# Altium footprint library 2021-03-26_19-59-11.PcbLib: 3 footprints
Each footprint in its own frame and in the unit in brackets; x right, y up, seen from the top. Pads: shape width x height; smd on the part's side, far side on the other; paste and mask are expansions set on the pad; w line width, h text height; cw(c..) or ccw(c..) is an arc to the next point about the centre after c.
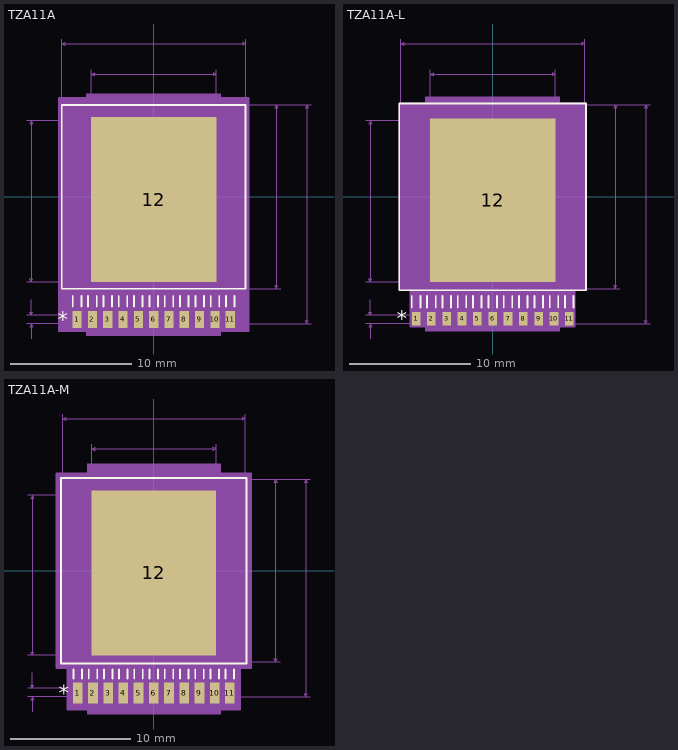
[diagram p0: the footprints below, top view; thin cyan lines are the x and y axes]

## TZA11A [mil]
pads (12):
  rect 30x56 smd: 1(-250,-400) 2(-200,-400) 3(-150,-400) 4(-100,-400) 5(-50,-400) 6(0,-400) 7(50,-400) 8(100,-400) 9(150,-400) 10(200,-400) 11(250,-400)
  rect 409x538 smd: 12(0,-9)
Top Overlay:
  lines w6: -264,-358 -264,-324 ; -236,-358 -236,-324 ; -214,-358 -214,-324 ; -186,-358 -186,-324 ; -164,-358 -164,-324 ; -136,-358 -136,-324 ; -114,-358 -114,-324 ; -86,-358 -86,-324 ; -64,-358 -64,-324 ; -36,-358 -36,-324 ; -14,-358 -14,-324 ; 14,-358 14,-324 ; 36,-358 36,-324 ; 64,-358 64,-324 ; 86,-358 86,-324 ; 114,-358 114,-324 ; 136,-358 136,-324 ; 164,-358 164,-324 ; 186,-358 186,-324 ; 214,-358 214,-324 ; 236,-358 236,-324 ; 264,-358 264,-324 ; -300,-300 300,-300 300,300 -300,300 -300,-300
  text "*" at -312.5,-425 h50
Mechanical 5:
  region: -219.5,337 219.5,337 219.5,-453 -219.5,-453
Mechanical 7:
  lines w1: -415,-414 0,-414 515,-414 ; -415,-386 0,-386 ; -415,-278 0,-278 ; -415,248 0,248 ; -400,-464 -400,-414 ; -400,-336 -400,-386 ; -300,0 -300,515 ; -204.5,0 -204.5,415 ; 0,-300 415,-300 ; 204.5,0 204.5,415 ; 300,0 300,515 ; 415,300 0,300 515,300 ; -400,-414 -405,-424 -395,-424 -400,-414 ; -400,-386 -405,-376 -395,-376 -400,-386 ; -400,-278 -400,248 ; -400,-278 -405,-268 -395,-268 -400,-278 ; -400,248 -405,238 -395,238 -400,248 ; -300,500 300,500 ; -300,500 -290,505 -290,495 -300,500 ; -204.5,400 204.5,400 ; -204.5,400 -194.5,405 -194.5,395 -204.5,400 ; 204.5,400 194.5,405 194.5,395 204.5,400 ; 300,500 290,505 290,495 300,500 ; 400,-300 400,300 ; 400,-300 395,-290 405,-290 400,-300 ; 400,300 395,290 405,290 400,300 ; 500,-414 500,300 ; 500,-414 495,-404 505,-404 500,-414 ; 500,300 495,290 505,290 500,300
  text "Default Padstyle: RX30Y56D0T" at -350,-564 h50
  text "Large Padstyle: RX409Y538D0T" at -350,-639 h50
  text "Alt 1 Padstyle: OX60Y90D30P" at -337.5,-714 h50
  text "Alt 2 Padstyle: OX90Y60D30P" at -337.5,-789 h50
  text ".6in/15.24mm" at 420,-12.5 h25
  text ".526in/13.36mm" at -595,-27.5 h25
  text ".6in/15.24mm" at -75,520 h25
  text ".409in/10.389mm" at -93.75,420 h25
  text ".714in/18.136mm" at 520,-112.5 h25
  text ".028in/.711mm" at -582.5,-412.5 h25
Mechanical 13:
  lines w1: -300,-300 300,-300 300,300 -300,300 -300,-300 ; -264,-414 -264,-300 -236,-300 -236,-414 -264,-414 ; -214,-414 -214,-300 -186,-300 -186,-414 -214,-414 ; -164,-414 -164,-300 -136,-300 -136,-414 -164,-414 ; -114,-414 -114,-300 -86,-300 -86,-414 -114,-414 ; -64,-414 -64,-300 -36,-300 -36,-414 -64,-414 ; -14,-414 -14,-300 14,-300 14,-414 -14,-414 ; 36,-414 36,-300 64,-300 64,-414 36,-414 ; 86,-414 86,-300 114,-300 114,-414 86,-414 ; 136,-414 136,-300 164,-300 164,-414 136,-414 ; 186,-414 186,-300 214,-300 214,-414 186,-414 ; 236,-414 236,-300 264,-300 264,-414 236,-414
  text "*" at -312.5,-425 h50
Mechanical 15:
  region: 310,-438 -310,-438 -310,322 310,322
  lines w6: -310,-438 -310,322 310,322 310,-438 -310,-438
3D body: height 10, standoff 0, extent 0,0 10,10

## TZA11A-L [mil]
pads (12):
  rect 28x44 smd: 1(-250,-398) 2(-200,-398) 3(-150,-398) 4(-100,-398) 5(-50,-398) 6(0,-398) 7(50,-398) 8(100,-398) 9(150,-398) 10(200,-398) 11(250,-398)
  rect 409x534 smd: 12(0,-11)
Top Overlay:
  lines w6: -264,-362 -264,-324 ; -236,-362 -236,-324 ; -214,-362 -214,-324 ; -186,-362 -186,-324 ; -164,-362 -164,-324 ; -136,-362 -136,-324 ; -114,-362 -114,-324 ; -86,-362 -86,-324 ; -64,-362 -64,-324 ; -36,-362 -36,-324 ; -14,-362 -14,-324 ; 14,-362 14,-324 ; 36,-362 36,-324 ; 64,-362 64,-324 ; 86,-362 86,-324 ; 114,-362 114,-324 ; 136,-362 136,-324 ; 164,-362 164,-324 ; 186,-362 186,-324 ; 214,-362 214,-324 ; 236,-362 236,-324 ; 264,-362 264,-324 ; -305,-305 305,-305 305,305 -305,305 -305,-305
  text "*" at -312.5,-423 h50
Mechanical 5:
  region: -219.5,327 219.5,327 219.5,-439 -219.5,-439
Mechanical 7:
  lines w1: -415,-414 0,-414 515,-414 ; -415,-386 0,-386 ; -415,-278 0,-278 ; -415,248 0,248 ; -400,-464 -400,-414 ; -400,-336 -400,-386 ; -300,0 -300,515 ; -204.5,0 -204.5,415 ; 0,-300 415,-300 ; 204.5,0 204.5,415 ; 300,0 300,515 ; 415,300 0,300 515,300 ; -400,-414 -405,-424 -395,-424 -400,-414 ; -400,-386 -405,-376 -395,-376 -400,-386 ; -400,-278 -400,248 ; -400,-278 -405,-268 -395,-268 -400,-278 ; -400,248 -405,238 -395,238 -400,248 ; -300,500 300,500 ; -300,500 -290,505 -290,495 -300,500 ; -204.5,400 204.5,400 ; -204.5,400 -194.5,405 -194.5,395 -204.5,400 ; 204.5,400 194.5,405 194.5,395 204.5,400 ; 300,500 290,505 290,495 300,500 ; 400,-300 400,300 ; 400,-300 395,-290 405,-290 400,-300 ; 400,300 395,290 405,290 400,300 ; 500,-414 500,300 ; 500,-414 495,-404 505,-404 500,-414 ; 500,300 495,290 505,290 500,300
  text "Default Padstyle: RX28Y44D0T" at -350,-564 h50
  text "Large Padstyle: RX409Y534D0T" at -350,-639 h50
  text "Alt 1 Padstyle: OX60Y90D30P" at -337.5,-714 h50
  text "Alt 2 Padstyle: OX90Y60D30P" at -337.5,-789 h50
  text "0.6in/15.24mm" at 420,-12.5 h25
  text "0.526in/13.36mm" at -607.5,-27.5 h25
  text "0.6in/15.24mm" at -81.25,520 h25
  text "0.409in/10.389mm" at -100,420 h25
  text "0.714in/18.136mm" at 520,-110.5 h25
  text "0.028in/0.711mm" at -607.5,-412.5 h25
Mechanical 13:
  lines w1: -300,-300 300,-300 300,300 -300,300 -300,-300 ; -264,-414 -264,-300 -236,-300 -236,-414 -264,-414 ; -214,-414 -214,-300 -186,-300 -186,-414 -214,-414 ; -164,-414 -164,-300 -136,-300 -136,-414 -164,-414 ; -114,-414 -114,-300 -86,-300 -86,-414 -114,-414 ; -64,-414 -64,-300 -36,-300 -36,-414 -64,-414 ; -14,-414 -14,-300 14,-300 14,-414 -14,-414 ; 36,-414 36,-300 64,-300 64,-414 36,-414 ; 86,-414 86,-300 114,-300 114,-414 86,-414 ; 136,-414 136,-300 164,-300 164,-414 136,-414 ; 186,-414 186,-300 214,-300 214,-414 186,-414 ; 236,-414 236,-300 264,-300 264,-414 236,-414
  text "*" at -262.5,-310 h50
Mechanical 15:
  region: -304,-304 -304,304 -18,304 18,304 304,304 304,-304 268,-304 268,-424 -268,-424 -268,-304
  region: 300,-300 -300,-300 -300,300 300,300
  lines w6: 0,0 0,0 ; 0,0 0,0 ; 0,0 0,0 ; 0,0 0,0 ; -304,-304 -304,304 304,304 304,-304 268,-304 268,-424 -268,-424 -268,-304 -304,-304
3D body: height 10, standoff 0, extent 0,0 10,10

## TZA11A-M [mil]
pads (12):
  rect 32x68 smd: 1(-250,-402) 2(-200,-402) 3(-150,-402) 4(-100,-402) 5(-50,-402) 6(0,-402) 7(50,-402) 8(100,-402) 9(150,-402) 10(200,-402) 11(250,-402)
  rect 409x542 smd: 12(0,-7)
Top Overlay:
  lines w6: -264,-354 -264,-324 ; -236,-354 -236,-324 ; -214,-354 -214,-324 ; -186,-354 -186,-324 ; -164,-354 -164,-324 ; -136,-354 -136,-324 ; -114,-354 -114,-324 ; -86,-354 -86,-324 ; -64,-354 -64,-324 ; -36,-354 -36,-324 ; -14,-354 -14,-324 ; 14,-354 14,-324 ; 36,-354 36,-324 ; 64,-354 64,-324 ; 86,-354 86,-324 ; 114,-354 114,-324 ; 136,-354 136,-324 ; 164,-354 164,-324 ; 186,-354 186,-324 ; 214,-354 214,-324 ; 236,-354 236,-324 ; 264,-354 264,-324 ; -305,-305 305,-305 305,305 -305,305 -305,-305
  text "*" at -312.5,-427 h50
Mechanical 5:
  region: -219.5,351 219.5,351 219.5,-471 -219.5,-471
Mechanical 7:
  lines w1: -415,-414 0,-414 515,-414 ; -415,-386 0,-386 ; -415,-278 0,-278 ; -415,248 0,248 ; -400,-464 -400,-414 ; -400,-336 -400,-386 ; -300,0 -300,515 ; -204.5,0 -204.5,415 ; 0,-300 415,-300 ; 204.5,0 204.5,415 ; 300,0 300,515 ; 415,300 0,300 515,300 ; -400,-414 -405,-424 -395,-424 -400,-414 ; -400,-386 -405,-376 -395,-376 -400,-386 ; -400,-278 -400,248 ; -400,-278 -405,-268 -395,-268 -400,-278 ; -400,248 -405,238 -395,238 -400,248 ; -300,500 300,500 ; -300,500 -290,505 -290,495 -300,500 ; -204.5,400 204.5,400 ; -204.5,400 -194.5,405 -194.5,395 -204.5,400 ; 204.5,400 194.5,405 194.5,395 204.5,400 ; 300,500 290,505 290,495 300,500 ; 400,-300 400,300 ; 400,-300 395,-290 405,-290 400,-300 ; 400,300 395,290 405,290 400,300 ; 500,-414 500,300 ; 500,-414 495,-404 505,-404 500,-414 ; 500,300 495,290 505,290 500,300
  text "Default Padstyle: RX32Y68D0T" at -350,-564 h50
  text "Large Padstyle: RX409Y542D0T" at -350,-639 h50
  text "Alt 1 Padstyle: OX60Y90D30P" at -337.5,-714 h50
  text "Alt 2 Padstyle: OX90Y60D30P" at -337.5,-789 h50
  text "0.6in/15.24mm" at 420,-12.5 h25
  text "0.526in/13.36mm" at -607.5,-27.5 h25
  text "0.6in/15.24mm" at -81.25,520 h25
  text "0.409in/10.389mm" at -100,420 h25
  text "0.714in/18.136mm" at 520,-114.5 h25
  text "0.028in/0.711mm" at -607.5,-412.5 h25
Mechanical 13:
  lines w1: -300,-300 300,-300 300,300 -300,300 -300,-300 ; -264,-414 -264,-300 -236,-300 -236,-414 -264,-414 ; -214,-414 -214,-300 -186,-300 -186,-414 -214,-414 ; -164,-414 -164,-300 -136,-300 -136,-414 -164,-414 ; -114,-414 -114,-300 -86,-300 -86,-414 -114,-414 ; -64,-414 -64,-300 -36,-300 -36,-414 -64,-414 ; -14,-414 -14,-300 14,-300 14,-414 -14,-414 ; 36,-414 36,-300 64,-300 64,-414 36,-414 ; 86,-414 86,-300 114,-300 114,-414 86,-414 ; 136,-414 136,-300 164,-300 164,-414 136,-414 ; 186,-414 186,-300 214,-300 214,-414 186,-414 ; 236,-414 236,-300 264,-300 264,-414 236,-414
  text "*" at -262.5,-310 h50
Mechanical 15:
  region: -320,-320 -320,320 -34,320 34,320 320,320 320,-320 284,-320 284,-456 -284,-456 -284,-320
  region: 300,-300 -300,-300 -300,300 300,300
  lines w6: 0,0 0,0 ; 0,0 0,0 ; 0,0 0,0 ; 0,0 0,0 ; -320,-320 -320,320 320,320 320,-320 284,-320 284,-456 -284,-456 -284,-320 -320,-320
3D body: height 10, standoff 0, extent 0,0 10,10